# EAGLE library part CONN_13-1 (library pel_molex)
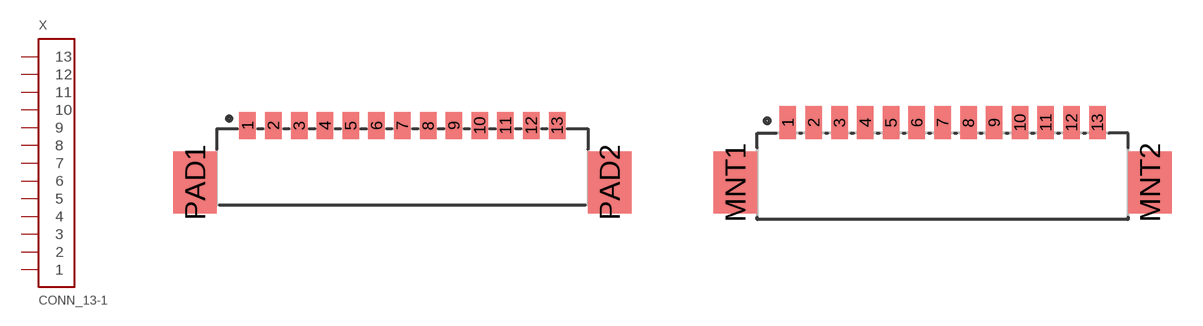
[diagram p5: symbol with the pads of PB-53398-13; footprints PB-53398-13, PB-53261-13]

Designator prefix X

## CONN_13-1-53398  [PB-53398-13]
1  1
2  2
3  3
4  4
5  5
6  6
7  7
8  8
9  9
10  10
11  11
12  12
13  13

## CONN_13-1-53261  [PB-53261-13]
Pads as for PB-53398-13

## CONN_13-1-53047  [PB-53047-13]
Pads as for PB-53398-13

## Footprint PB-53398-13 (pad centres in mm)
smd 0.8 x 1.3: 1 -7.5,1.25; 2 -6.25,1.25; 3 -5,1.25; 4 -3.75,1.25; 5 -2.5,1.25; 6 -1.25,1.25; 7 0,1.25; 8 1.25,1.25; 9 2.5,1.25; 10 3.75,1.25; 11 5,1.25; 12 6.25,1.25; 13 7.5,1.25
smd 2.1 x 3: PAD1 -10.05,-1.5; PAD2 10.05,-1.5

## Footprint PB-53261-13 (pad centres in mm)
smd 0.8 x 1.6: 1 -7.5,1.1; 2 -6.25,1.1; 3 -5,1.1; 4 -3.75,1.1; 5 -2.5,1.1; 6 -1.25,1.1; 7 0,1.1; 8 1.25,1.1; 9 2.5,1.1; 10 3.75,1.1; 11 5,1.1; 12 6.25,1.1; 13 7.5,1.1
smd 2.1 x 3: MNT1 -10.05,-1.8; MNT2 10.05,-1.8

## Footprint PB-53047-13 (pad centres in mm)
drill 0.5: 1 -7.5,0; 2 -6.25,0; 3 -5,0; 4 -3.75,0; 5 -2.5,0; 6 -1.25,0; 7 0,0; 8 1.25,0; 9 2.5,0; 10 3.75,0; 11 5,0; 12 6.25,0; 13 7.5,0